# EAGLE library part U6875-A (library wheat)
FLYBACK XFMR, COILCRAF U6875-A
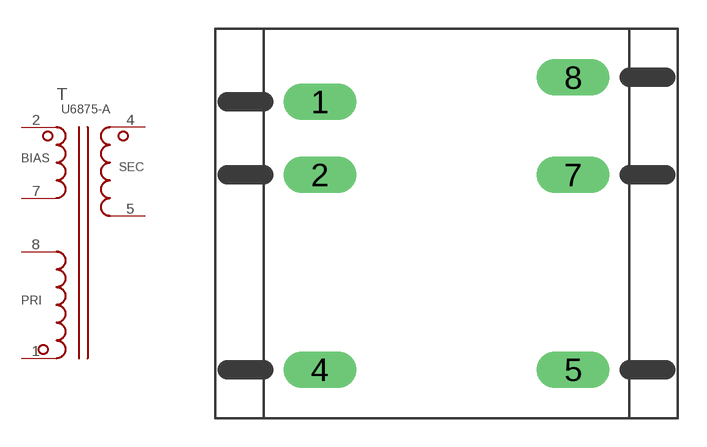
[diagram p46: symbol with the pads of U6875-A; footprint U6875-A]

Designator prefix T

## U6875-A  [U6875-A]
1  1  pas
2  2  pas
4  4  pas
5  5  pas
7  7  pas
8  8  pas

## Footprint U6875-A (pad centres in mm)
FLYBACK XFMR, COILCRAFT U6875-A
drill 1.27 long: 1 -6.604,6.35; 2 -6.604,2.54; 4 -6.604,-7.62; 5 6.604,-7.62; 7 6.604,2.54; 8 6.604,7.62